# Altium integrated library test_points.IntLib: 18 symbols
Pins are listed as number, name and electrical type; pins without a type are passive.

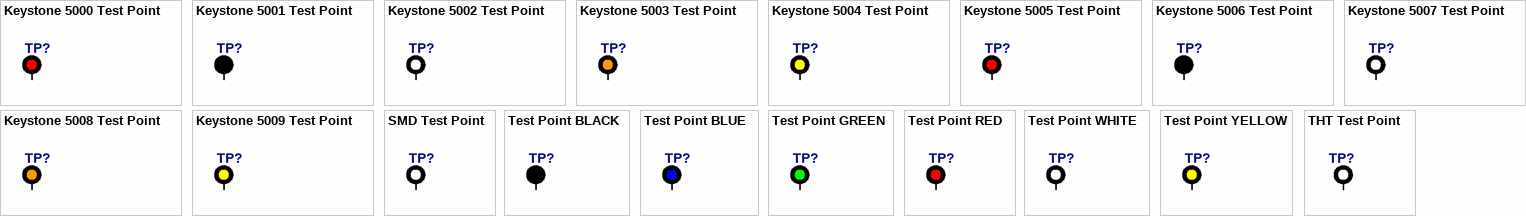
[diagram p0: symbols Keystone 5000 Test Point to THT Test Point]

## Keystone 5000 Test Point
designator TP?, comment Keystone 5000 Test Point (RED)  (value not drawn)
footprint Keystone_5000_RED (Red Keystone Electronics 5000 Test Point)
pins: 0

## Keystone 5001 Test Point
designator TP?, comment Keystone 5001 Test Point (BLACK)  (value not drawn)
footprint Keystone_5001_BLACK (Black Keystone Electronics 5001 Test Point)
pins: 0

## Keystone 5002 Test Point
designator TP?, comment Keystone 5002 Test Point (WHITE)  (value not drawn)
footprint Keystone_5002_WHITE (White Keystone Electronics 5002 Test Point)
pins: 0

## Keystone 5003 Test Point
designator TP?, comment Keystone 5003 Test Point (ORANGE)  (value not drawn)
footprint Keystone_5003_ORANGE (Orange Keystone Electronics 5003 Test Point)
pins: 0

## Keystone 5004 Test Point
designator TP?, comment Keystone 5004 Test Point (YELLOW)  (value not drawn)
footprint Keystone_5004_YELLOW (Yellow Keystone Electronics 5004 Test Point)
pins: 0

## Keystone 5005 Test Point
designator TP?, comment Keystone 5005 Test Point (RED)  (value not drawn)
footprint Keystone_5005_RED (Yellow Keystone Electronics 5005 Test Point)
pins: 0

## Keystone 5006 Test Point
designator TP?, comment Keystone 5006 Test Point (BLACK)  (value not drawn)
footprint Keystone_5006_BLACK (Yellow Keystone Electronics 5006 Test Point)
pins: 0

## Keystone 5007 Test Point
designator TP?, comment Keystone 5007 Test Point (WHITE)  (value not drawn)
footprint Keystone_5007_WHITE (Yellow Keystone Electronics 5007 Test Point)
pins: 0

## Keystone 5008 Test Point
designator TP?, comment Keystone 5008 Test Point (ORANGE)  (value not drawn)
footprint Keystone_5008_ORANGE (Yellow Keystone Electronics 5008 Test Point)
pins: 0

## Keystone 5009 Test Point
designator TP?, comment Keystone 5009 Test Point (YELLOW)  (value not drawn)
footprint Keystone_5009_YELLOW (Yellow Keystone Electronics 5009 Test Point)
pins: 0

## SMD Test Point
designator TP?  (value not drawn)  (no BOM)
footprint SMD_TP_1mm
footprint SMD_TP_1mm_w_hole
pins: 0

## Test Point BLACK
designator TP?  (value not drawn)
footprint CHINA_BLACK
pins: 0

## Test Point BLUE
designator TP?  (value not drawn)
footprint CHINA_GREEN
pins: 0

## Test Point GREEN
designator TP?  (value not drawn)
footprint CHINA_GREEN
pins: 0

## Test Point RED
designator TP?  (value not drawn)
footprint CHINA_RED
pins: 0

## Test Point WHITE
designator TP?  (value not drawn)
footprint CHINA_WHITE
pins: 0

## Test Point YELLOW
designator TP?  (value not drawn)
footprint CHINA_YELLOW
pins: 0

## THT Test Point
designator TP?  (value not drawn)  (no BOM)
footprint THT_TP_3mm
pins: 0